# EAGLE library part LTC3105 (library ERIC)
400mA Step-Up Dc/DC Converter with Maximum Power Point Control and 250mV Start-Up
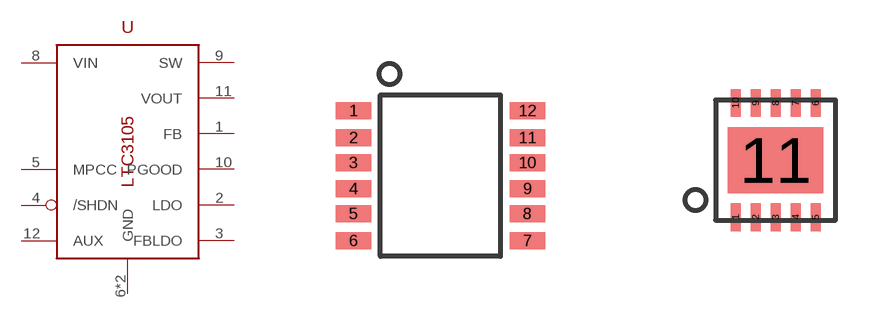
[diagram p13: symbol with the pads of MSOP_12_LEAD; footprints MSOP_12_LEAD, DFN_10_LEAD]

Designator prefix U

## LTC3105MSOP  [MSOP_12_LEAD]
1  FB
2  LDO
3  FBLDO
4  /SHDN
5  MPCC
6  GND
7  GND
8  VIN
9  SW
10  PGOOD
11  VOUT
12  AUX

## LTC3105DNF  [DFN_10_LEAD]
1  FB
2  LDO
3  FBLDO
4  /SHDN
5  MPCC
6  VIN
7  SW
8  PGOOD
9  VOUT
10  AUX
11  GND

## Footprint MSOP_12_LEAD (pad centres in mm)
MS Package 12-Lead Plastic MSOP (Reference LTC DWG # 05--8-1668 Rev 0) (taken from LTC3105 datasheet)
smd 0.889 x 0.42: 1 -2.175,1.625; 2 -2.175,0.95; 3 -2.175,0.325; 4 -2.175,-0.325; 5 -2.175,-0.95; 6 -2.175,-1.625; 7 2.175,-1.625; 8 2.175,-0.95; 9 2.175,-0.325; 10 2.175,0.325; 11 2.175,0.95; 12 2.175,1.625

## Footprint DFN_10_LEAD (pad centres in mm)
From LtC3105 datasheet (Reference LTC DWG # 05-08-1699 Rev C)
smd 0.25 x 0.7: 1 -1,-1.425; 2 -0.5,-1.425; 3 0,-1.425; 4 0.5,-1.425; 5 1,-1.425; 6 1,1.425; 7 0.5,1.425; 8 0,1.425; 9 -0.5,1.425; 10 -1,1.425
smd 2.38 x 1.65: 11 0,0